# Altium footprint library QFN-64(90X90)-T72.PcbLib: 1 footprints
Each footprint in its own frame and in the unit in brackets; x right, y up, seen from the top. Pads: shape width x height; smd on the part's side, far side on the other; paste and mask are expansions set on the pad; w line width, h text height; cw(c..) or ccw(c..) is an arc to the next point about the centre after c.
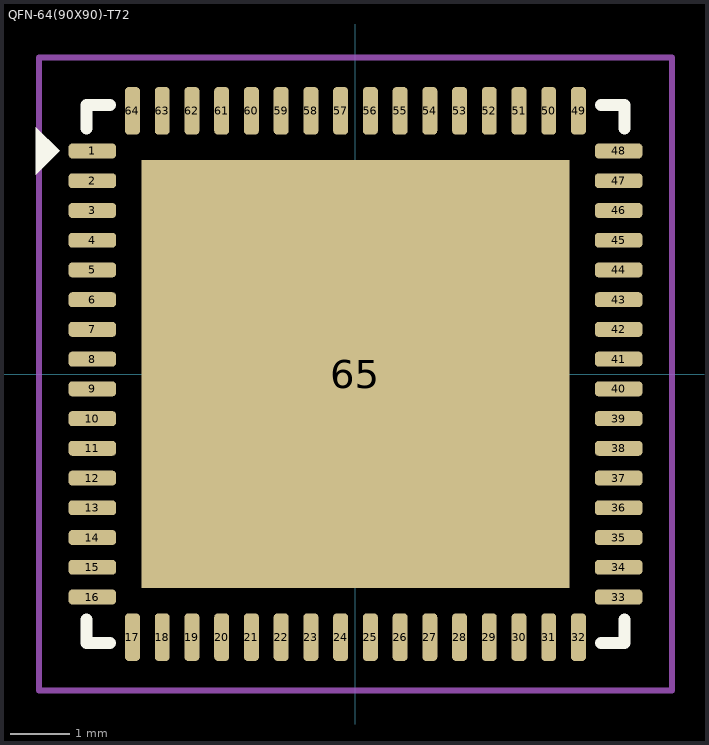
[diagram p0: the footprint, top view; thin cyan lines are the x and y axes]

## QFN-64(90X90)-T72 [mm] "QFN, 64-Leads, Body 9.00x9.00mm, Pitch 0.50mm, Thermal Pad 7.20x7.20mm, IPC Medium Density"
height 0.9
pads (65):
  rrect50% 0.8x0.25 smd: 1(-4.425,3.75) 2(-4.425,3.25) 3(-4.425,2.75) 4(-4.425,2.25) 5(-4.425,1.75) 6(-4.425,1.25) 7(-4.425,0.75) 8(-4.425,0.25) 9(-4.425,-0.25) 10(-4.425,-0.75) 11(-4.425,-1.25) 12(-4.425,-1.75) 13(-4.425,-2.25) 14(-4.425,-2.75) 15(-4.425,-3.25) 16(-4.425,-3.75) 33(4.425,-3.75) 34(4.425,-3.25) 35(4.425,-2.75) 36(4.425,-2.25) 37(4.425,-1.75) 38(4.425,-1.25) 39(4.425,-0.75) 40(4.425,-0.25) 41(4.425,0.25) 42(4.425,0.75) 43(4.425,1.25) 44(4.425,1.75) 45(4.425,2.25) 46(4.425,2.75) 47(4.425,3.25) 48(4.425,3.75)
  rrect50% 0.25x0.8 smd: 17(-3.75,-4.425) 18(-3.25,-4.425) 19(-2.75,-4.425) 20(-2.25,-4.425) 21(-1.75,-4.425) 22(-1.25,-4.425) 23(-0.75,-4.425) 24(-0.25,-4.425) 25(0.25,-4.425) 26(0.75,-4.425) 27(1.25,-4.425) 28(1.75,-4.425) 29(2.25,-4.425) 30(2.75,-4.425) 31(3.25,-4.425) 32(3.75,-4.425) 49(3.75,4.425) 50(3.25,4.425) 51(2.75,4.425) 52(2.25,4.425) 53(1.75,4.425) 54(1.25,4.425) 55(0.75,4.425) 56(0.25,4.425) 57(-0.25,4.425) 58(-0.75,4.425) 59(-1.25,4.425) 60(-1.75,4.425) 61(-2.25,4.425) 62(-2.75,4.425) 63(-3.25,4.425) 64(-3.75,4.425)
  rect 7.2x7.2 smd paste-3.6: 65(0,0)
Top Overlay:
  region: -5.375,3.35 -5.375,4.15 -4.975,3.75
  lines w0.2: -4.525,-4.125 -4.525,-4.525 -4.125,-4.525 ; -4.525,4.125 -4.525,4.525 -4.125,4.525 ; 4.125,-4.525 4.525,-4.525 4.525,-4.125 ; 4.125,4.525 4.525,4.525 4.525,4.125
Top Paste:
  region: 0.4,-0.4 0.4,-3.2 3.2,-3.2 3.2,-0.4
  region: -0.4,-0.4 -3.2,-0.4 -3.2,-3.2 -0.4,-3.2
  region: -0.4,0.4 -0.4,3.2 -3.2,3.2 -3.2,0.4
  rectangle: 0.4,0.4 3.2,3.2
Top Courtyard:
  lines w0.1: -0.5,0 0.5,0 ; 0,-0.5 0,0.5 ; -5.325,-5.325 5.325,-5.325 5.325,5.325 -5.325,5.325 -5.325,-5.325
3D body "QFN50P900X900X90_HS-65N.step": height 0.9, standoff 0, extent -4.51,-4.51 4.51,4.51